# EAGLE library part TPS773* (library texas_ffmc)
250-mA LDO REGULATORS WITH RESET OUTPUT WITH 8-PIN MSOP PACKAGING Source: http://focus.ti.com/lit/ds/symlink/tps77333.pdf
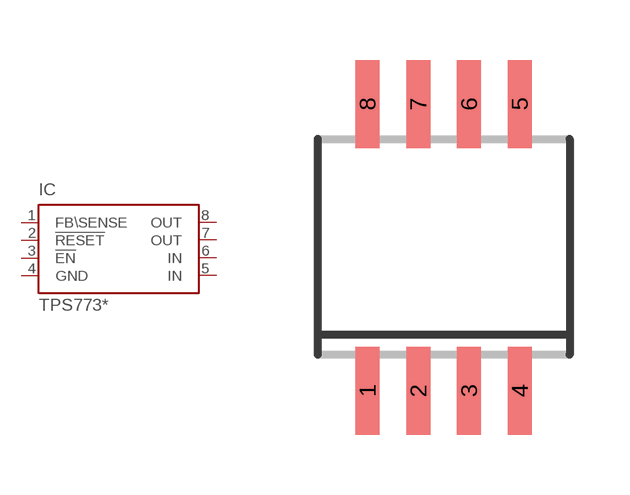
[diagram p62: symbol with the pads of SOP-08; footprint SOP-08]

Designator prefix IC

## TPS77301 (MF: TEXAS INSTRUMENT CONNECTORS; MPN: TPS77301DGK; OC_FARNELL: 1510194; OC_NEWARK: 77C1213), TPS77315 (MF: TEXAS INSTRUMENT CONNECTORS; MPN: TPS77315DGK; OC_FARNELL: 1412890; OC_NEWARK: 77C1215), TPS77316 (MF: TEXAS INSTRUMENT CONNECTORS; MPN: TPS77316DGK; OC_FARNELL: 1412891; OC_NEWARK: 77C1217), TPS77318 (MF: TEXAS INSTRUMENT CONNECTORS; MPN: TPS77318DGK; OC_FARNELL: 1412893; OC_NEWARK: 77C1219), TPS77327 (MF: TEXAS INSTRUMENT CONNECTORS; MPN: TPS77327DGK; OC_FARNELL: unknown; OC_NEWARK: 77C1221), TPS77328 (MF: TEXAS INSTRUMENT CONNECTORS; MPN: TPS77328DGK; OC_FARNELL: unknown; OC_NEWARK: 77C1223), TPS77333 (MF: TEXAS INSTRUMENTS; MPN: TPS77333DGK; OC_FARNELL: 1510195; OC_NEWARK: 02M1919), TPS77350 (MF: TEXAS INSTRUMENT CONNECTORS; MPN: TPS77350DGK; OC_FARNELL: 1412894; OC_NEWARK: 77C1226)  [SOP-08]
1  FB\SENSE  in
2  !RESET  in
3  !EN  in
4  GND  pwr
5  IN  in
6  IN  in
7  OUT  out
8  OUT  pas

## Footprint SOP-08 (pad centres in mm)
PS (R-PDSO-G8) Source: http://focus.ti.com .. sn65176b.pdf
smd 0.6 x 2.2: 1 -1.905,-3.6; 2 -0.635,-3.6; 3 0.635,-3.6; 4 1.905,-3.6; 5 1.905,3.575; 6 0.635,3.575; 7 -0.635,3.575; 8 -1.905,3.575